# EAGLE library part 634008138121 (library InputOutputIO (rev18b))
WR-MJ Vertical Plastic 8P8C SMT Modular Jack,8 pins=>Code : Con_I-O_MJ-V_Plastic_615008138121 <http://katalog.we-online.de/media/images/eican/Con_I-O_MJ-V_Plastic_615008138121_pf2.jpg> Details see: http://katalog.we-online.de/en/em/MJ_SMT_VERTICAL_PLASTIC_8P8C/634008138121 Created 2014-07-10, Karrer Zheng 2014 (C) Würth Elektronik
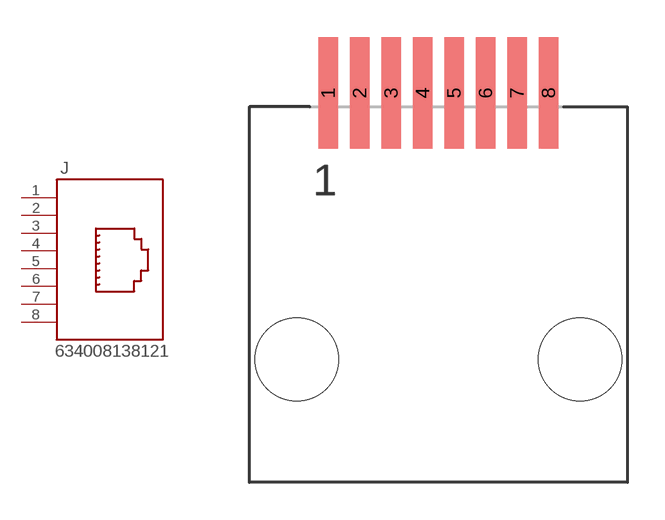
[diagram p137: symbol with the pads of 634008138121; footprint 634008138121]

Designator prefix J

## 634008138121  [634008138121]
1  8  pas
2  7  pas
3  6  pas
4  5  pas
5  4  pas
6  3  pas
7  2  pas
8  1  pas

## Footprint 634008138121 (pad centres in mm)
WR-MJ Vertical Plastic 8P8C SMT Modular Jack,8 pins
smd 0.8 x 4.5: 1 -4.445,0; 2 -3.175,0; 3 -1.905,0; 4 -0.635,0; 5 0.635,0; 6 1.905,0; 7 3.175,0; 8 4.445,0
hole 3.35 at -5.715,-10.75
hole 3.35 at 5.715,-10.75